# Altium footprint library all_kalex_Library.PcbLib: 234 footprints (part 5 of 15)
Each footprint in its own frame and in the unit in brackets; x right, y up, seen from the top. Pads: shape width x height; smd on the part's side, far side on the other; paste and mask are expansions set on the pad; w line width, h text height; cw(c..) or ccw(c..) is an arc to the next point about the centre after c.
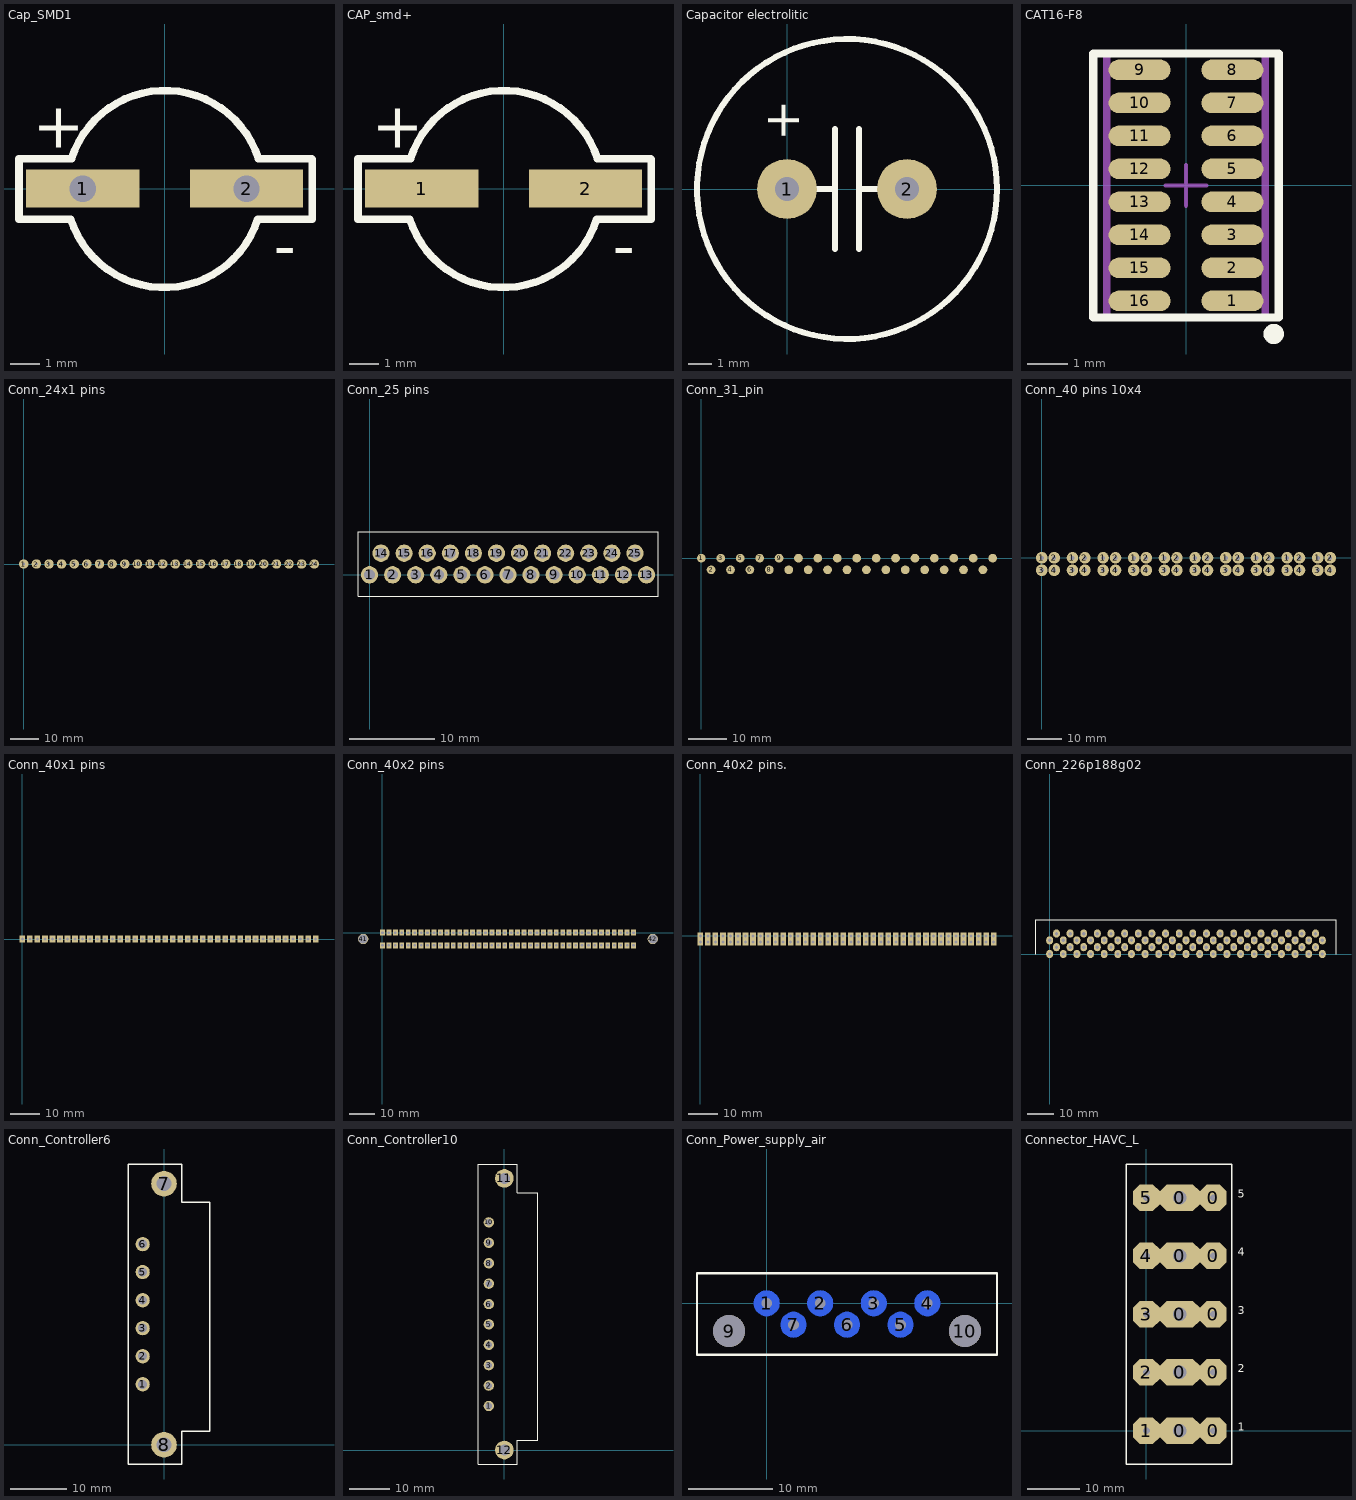
[diagram p4: the footprints below, top view; thin cyan lines are the x and y axes]

## Cap_SMD1 [mil]
pads (2):
  rect 150x50 hole 35: 1(-109,0) 2(108,0)
Top Overlay:
  lines w10: -193.38,-40.29 -193.38,39.62 -123.82,39.62 cw(c0,0) 123.82,39.62 194.38,39.62 195,39 195,-40.29 122.92,-40.29 cw(c-1,-1) -124.92,-40.29 -193.38,-40.29
  text "-" at 144,-105 h60
  text "+" at -175,54 h60

## CAP_smd+ [mil]
pads (2):
  rect 150x50 smd: 1(-109,0) 2(108,0)
Top Overlay:
  lines w10: -193.38,-40.29 -193.38,39.62 -123.82,39.62 cw(c0,0) 123.82,39.62 194.38,39.62 195,39 195,-40.29 122.92,-40.29 cw(c-1,-1) -124.92,-40.29 -193.38,-40.29
  text "-" at 144,-105 h60
  text "+" at -175,54 h60

## Capacitor electrolitic [mil]
pads (2):
  round 100 hole 40: 1(0,0) 2(200,0)
Top Overlay:
  circle w10: c100,0 r250
  lines w10: 0,0 80,0 ; 80,-100 80,100 ; 120,-100 120,100 ; 120,0 200,0
  text "+" at 20,80 h60

## CAT16-F8 [mil] "network_Resistor"
height 200
pads (16):
  oval 60x20 smd: 1(45,-112) 2(45,-80) 3(45,-48) 4(45,-16) 5(45,16) 6(45,48) 7(45,80) 8(45,112) 9(-45,112) 10(-45,80) 11(-45,48) 12(-45,16) 13(-45,-16) 14(-45,-48) 15(-45,-80) 16(-45,-112)
Top Overlay:
  circle w9.84: c85.08,-144 r4.92
  lines w7.87: -90,-128 90,-128 90,128 -90,128 -90,-128
Mechanical 13:
  lines w3.94: -78.74,-128 78.74,-128 78.74,128 -78.74,128 -78.74,-128
Mechanical 15:
  lines w3.94: -19.68,0 19.69,0 ; 0,-19.68 0,19.69 ; -75,-128 75,-128 75,128 -75,128 -75,-128
3D body: height 68.9, standoff 0, extent -45,-128 45,128

## Conn_24x1 pins [mil]
pads (24):
  round 130 hole 40: 1(0,0) 2(174,0) 3(348,0) 4(522,0) 5(696,0) 6(870,0) 7(1044,0) 8(1218,0) 9(1392,0) 10(1566,0) 11(1740,0) 12(1914,0) 13(2088,0) 14(2262,0) 15(2436,0) 16(2610,0) 17(2784,0) 18(2958,0) 19(3132,0) 20(3306,0) 21(3480,0) 22(3654,0) 23(3828,0) 24(4002,0)

## Conn_25 pins [mil]
pads (25):
  round 80 hole 50: 1(0,0) 2(107,0) 3(214,0) 4(321,0) 5(428,0) 6(535,0) 7(642,0) 8(749,0) 9(856,0) 10(963,0) 11(1070,0) 12(1177,0) 13(1284,0) 14(53.5,100) 15(160.5,100) 16(267.5,100) 17(374.5,100) 18(481.5,100) 19(588.5,100) 20(695.5,100) 21(802.5,100) 22(909.5,100) 23(1016.5,100) 24(1123.5,100) 25(1230.5,100)
Top Overlay:
  lines w5: -53.5,-100 -53.5,200 1337.5,200 1337.5,-100 -53.5,-100

## Conn_31_pin [mil]
pads (31):
  round 90 all layers, no hole: 1(0,0) 2(100,-120) 3(200,0) 4(300,-120) 5(400,0) 6(500,-120) 7(600,0) 8(700,-120) 9(800,0) 10(900,-120) 11(1000,0) 12(1100,-120) 13(1200,0) 14(1300,-120) 15(1400,0) 16(1500,-120) 17(1600,0) 18(1700,-120) 19(1800,0) 20(1900,-120) 21(2000,0) 22(2100,-120) 23(2200,0) 24(2300,-120) 25(2400,0) 26(2500,-120) 27(2600,0) 28(2700,-120) 29(2800,0) 30(2900,-120) 31(3000,0)

## Conn_40 pins 10x4 [mil]
pads (40):
  round 130 hole 45: 1(0,0) 1(345,0) 1(690,0) 1(1035,0) 1(1380,0) 1(1725,0) 1(2070,0) 1(2415,0) 1(2760,0) 1(3105,0) 2(140,0) 2(485,0) 2(830,0) 2(1175,0) 2(1520,0) 2(1865,0) 2(2210,0) 2(2555,0) 2(2900,0) 2(3245,0) 3(0,-140) 3(345,-140) 3(690,-140) 3(1035,-140) 3(1380,-140) 3(1725,-140) 3(2070,-140) 3(2415,-140) 3(2760,-140) 3(3105,-140) 4(140,-140) 4(485,-140) 4(830,-140) 4(1175,-140) 4(1520,-140) 4(1865,-140) 4(2210,-140) 4(2555,-140) 4(2900,-140) 4(3245,-140)

## Conn_40x1 pins [mil]
pads (40):
  rect 75x90 hole 40: 1(0,0) 2(100,0) 3(200,0) 4(300,0) 5(400,0) 6(500,0) 7(600,0) 8(700,0) 9(800,0) 10(900,0) 11(1000,0) 12(1100,0) 13(1200,0) 14(1300,0) 15(1400,0) 16(1500,0) 17(1600,0) 18(1700,0) 19(1800,0) 20(1900,0) 21(2000,0) 22(2100,0) 23(2200,0) 24(2300,0) 25(2400,0) 26(2500,0) 27(2600,0) 28(2700,0) 29(2800,0) 30(2900,0) 31(3000,0) 32(3100,0) 33(3200,0) 34(3300,0) 35(3400,0) 36(3500,0) 37(3600,0) 38(3700,0) 39(3800,0) 40(3900,0)

## Conn_40x2 pins [mil]
pads (82):
  rect 75x90 hole 40: 1(0,-200) 1(0,0) 2(100,-200) 2(100,0) 3(200,-200) 3(200,0) 4(300,-200) 4(300,0) 5(400,-200) 5(400,0) 6(500,-200) 6(500,0) 7(600,-200) 7(600,0) 8(700,-200) 8(700,0) 9(800,-200) 9(800,0) 10(900,-200) 10(900,0) 11(1000,-200) 11(1000,0) 12(1100,-200) 12(1100,0) 13(1200,-200) 13(1200,0) 14(1300,-200) 14(1300,0) 15(1400,-200) 15(1400,0) 16(1500,-200) 16(1500,0) 17(1600,-200) 17(1600,0) 18(1700,-200) 18(1700,0) 19(1800,-200) 19(1800,0) 20(1900,-200) 20(1900,0) 21(2000,-200) 21(2000,0) 22(2100,-200) 22(2100,0) 23(2200,-200) 23(2200,0) 24(2300,-200) 24(2300,0) 25(2400,-200) 25(2400,0) 26(2500,-200) 26(2500,0) 27(2600,-200) 27(2600,0) 28(2700,-200) 28(2700,0) 29(2800,-200) 29(2800,0) 30(2900,-200) 30(2900,0) 31(3000,-200) 31(3000,0) 32(3100,-200) 32(3100,0) 33(3200,-200) 33(3200,0) 34(3300,-200) 34(3300,0) 35(3400,-200) 35(3400,0) 36(3500,-200) 36(3500,0) 37(3600,-200) 37(3600,0) 38(3700,-200) 38(3700,0) 39(3800,-200) 39(3800,0) 40(3900,-200) 40(3900,0)
  round 160 hole 140: 41(-300,-100) 42(4200,-100)

## Conn_40x2 pins. [mil]
pads (80):
  rect 75x90 hole 40: 1(0,-85) 1(0,0) 2(100,-85) 2(100,0) 3(200,-85) 3(200,0) 4(300,-85) 4(300,0) 5(400,-85) 5(400,0) 6(500,-85) 6(500,0) 7(600,-85) 7(600,0) 8(700,-85) 8(700,0) 9(800,-85) 9(800,0) 10(900,-85) 10(900,0) 11(1000,-85) 11(1000,0) 12(1100,-85) 12(1100,0) 13(1200,-85) 13(1200,0) 14(1300,-85) 14(1300,0) 15(1400,-85) 15(1400,0) 16(1500,-85) 16(1500,0) 17(1600,-85) 17(1600,0) 18(1700,-85) 18(1700,0) 19(1800,-85) 19(1800,0) 20(1900,-85) 20(1900,0) 21(2000,-85) 21(2000,0) 22(2100,-85) 22(2100,0) 23(2200,-85) 23(2200,0) 24(2300,-85) 24(2300,0) 25(2400,-85) 25(2400,0) 26(2500,-85) 26(2500,0) 27(2600,-85) 27(2600,0) 28(2700,-85) 28(2700,0) 29(2800,-85) 29(2800,0) 30(2900,-85) 30(2900,0) 31(3000,-85) 31(3000,0) 32(3100,-85) 32(3100,0) 33(3200,-85) 33(3200,0) 34(3300,-85) 34(3300,0) 35(3400,-85) 35(3400,0) 36(3500,-85) 36(3500,0) 37(3600,-85) 37(3600,0) 38(3700,-85) 38(3700,0) 39(3800,-85) 39(3800,0) 40(3900,-85) 40(3900,0)

## Conn_226p188g02 [mil]
pads (82):
  oval 100x120 hole 50: 1(4000,0) 1(4000,200) 2(3900,100) 2(3900,300) 3(3800,0) 3(3800,200) 4(3700,100) 4(3700,300) 5(3600,0) 5(3600,200) 6(3500,100) 6(3500,300) 7(3400,0) 7(3400,200) 8(3300,100) 8(3300,300) 9(3200,0) 9(3200,200) 10(3100,100) 10(3100,300) 11(3000,0) 11(3000,200) 12(2900,100) 12(2900,300) 13(2800,0) 13(2800,200) 14(2700,100) 14(2700,300) 15(2600,0) 15(2600,200) 16(2500,100) 16(2500,300) 17(2400,0) 17(2400,200) 18(2300,100) 18(2300,300) 19(2200,0) 19(2200,200) 20(2100,100) 20(2100,300) 21(2000,0) 21(2000,200) 22(1900,100) 22(1900,300) 23(1800,0) 23(1800,200) 24(1700,100) 24(1700,300) 25(1600,0) 25(1600,200) 26(1500,100) 26(1500,300) 27(1400,0) 27(1400,200) 28(1300,100) 28(1300,300) 29(1200,0) 29(1200,200) 30(1100,100) 30(1100,300) 31(1000,0) 31(1000,200) 32(900,100) 32(900,300) 33(800,0) 33(800,200) 34(700,100) 34(700,300) 35(600,0) 35(600,200) 36(500,100) 36(500,300) 37(400,0) 37(400,200) 38(300,100) 38(300,300) 39(200,0) 39(200,200) 40(100,100) 40(100,300) 41(0,0) 41(0,200)
Top Overlay:
  lines w10: -200,0 -200,500 4200,500 4200,0

## Conn_Controller6 [mil]
pads (8):
  round 100 hole 63: 1(-150,425) 2(-150,622) 3(-150,819) 4(-150,1015) 5(-150,1213) 6(-150,1409)
  round 180 hole 104: 7(0,1834) 8(0,0)
Top Overlay:
  lines w10: -250,-135 -250,1972 125,1972 125,1703 320,1703 320,95 125,95 125,-135 -250,-135

## Conn_Controller10 [mil]
pads (12):
  round 100 hole 63: 1(-150,425) 2(-150,622) 3(-150,819) 4(-150,1015) 5(-150,1213) 6(-150,1409) 7(-150,1606) 8(-150,1803) 9(-150,2000) 10(-150,2197)
  round 180 hole 104: 11(0,2622) 12(0,0)
Top Overlay:
  lines w10: 320,2481 320,95 125,95 125,-135 -250,-135 -250,2761 125,2761 125,2482 320,2482

## Conn_Power_supply_air [mil]
pads (9):
  round 120 on Bottom hole 50 unplated: 1(0,0) 2(250,0) 3(500,0) 4(750,0) 5(625,-100) 6(375,-100) 7(125,-100)
  round 150 hole 150 unplated: 9(-175,-130) 10(925,-130)
Top Overlay:
  lines w10: -325,-240 1075,-240 1075,140 -325,140 -325,-240

## Connector_HAVC_L [mil]
pads (15):
  oct 300x200 hole 100: 0(250,0) 0(250,437) 0(250,874) 0(250,1311) 0(250,1748)
  oct 200x200 hole 50: 0(500,0) 0(500,437) 0(500,874) 0(500,1311) 0(500,1748) 1(0,0) 2(0,437) 3(0,874) 4(0,1311) 5(0,1748)
Top Overlay:
  lines w10: -150,-250 -150,2000 640,2000 640,-250 -150,-250
  text "5" at 683.7,1748.03 h60
  text "4" at 683.7,1311.02 h60
  text "3" at 683.7,874.02 h60
  text "2" at 683.7,437.01 h60
  text "1" at 683.7,0 h60